# Altium footprint library PCB - LED - INOLUX IN-P32TRRRGB.PCBLIB: 1 footprints
Each footprint in its own frame and in the unit in brackets; x right, y up, seen from the top. Pads: shape width x height; smd on the part's side, far side on the other; paste and mask are expansions set on the pad; w line width, h text height; cw(c..) or ccw(c..) is an arc to the next point about the centre after c.
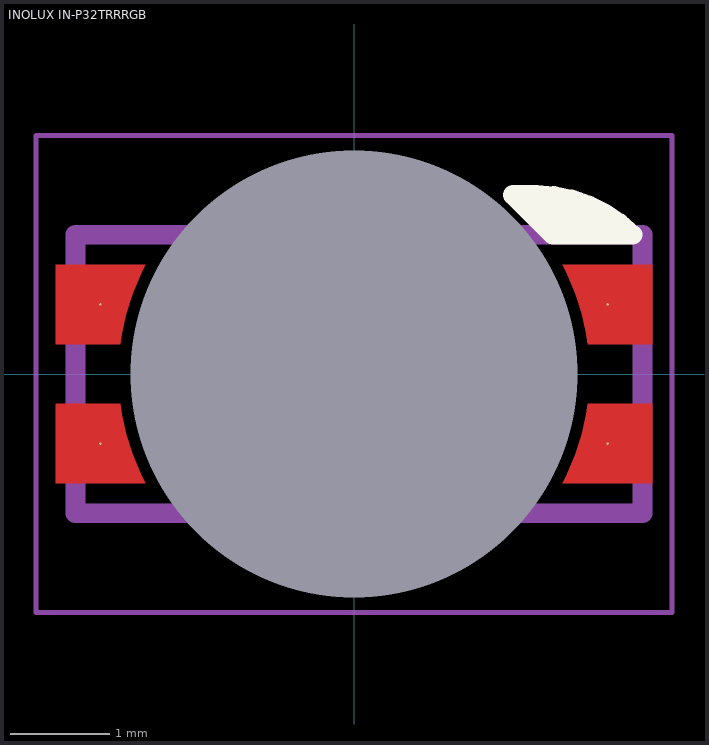
[diagram p0: the footprint, top view; thin cyan lines are the x and y axes]

## INOLUX IN-P32TRRRGB [mil] "RGB LED REVERSE MOUNT COMMON ANODE"
height 36.61
pads (5):
  round 1 smd: B(100.39,27.56) C(100.39,-27.56) G(-100.39,27.56) R(-100.39,-27.56)
  round 0 hole 177.17 unplated: M1(0,0)
Top Layer:
  region: 118.11,-11.81 92.61,-11.81 92.58,-11.81 91.97,-15.91 90.19,-24.01 87.7,-31.93 84.52,-39.59 82.68,-43.31 118.11,-43.31
  region: -118.11,-11.81 -92.61,-11.81 -92.58,-11.81 -91.97,-15.91 -90.19,-24.01 -87.7,-31.93 -84.52,-39.59 -82.68,-43.31 -118.11,-43.31
  region: 118.11,11.81 92.61,11.81 92.58,11.81 91.97,15.91 90.19,24.01 87.7,31.93 84.52,39.59 82.68,43.31 118.11,43.31
  region: -118.11,11.81 -92.61,11.81 -92.58,11.81 -91.97,15.91 -90.19,24.01 -87.7,31.93 -84.52,39.59 -82.68,43.31 -118.11,43.31
Top Overlay:
  region: 110.24,55.12 78.74,55.12 62.99,70.87 86.61,66.93
  lines w7.87: 62.99,70.87 ccw(c62.99,70.87) 62.99,70.87 ; 62.99,70.87 72.22,70.87 cw(c72.22,17.1) 110.24,55.12 78.74,55.12 ; 62.99,70.87 62.99,70.87 ; 62.99,70.87 78.74,55.12 ; 78.74,55.12 ccw(c78.74,55.12) 78.74,55.12
Mechanical 13:
  lines w7.87: -110.24,-55.12 -110.24,55.12 114.17,55.12 114.17,-55.12 -110.24,-55.12
Mechanical 15:
  lines w1.97: -125.98,-94.49 -125.98,94.49 125.98,94.49 125.98,-94.49 -125.98,-94.49
  lines w3.94: -19.68,0 19.68,0 ; 0,-19.68 0,19.68
3D body "INOLUX IN-P32TRRRGB.step": height 36.61, standoff -36.22, extent -111.22,-54.92 111.22,55.31